# Altium schematic symbol library Schlib1.SchLib: 6 symbols
Pins are listed as number, name and electrical type; pins without a type are passive.

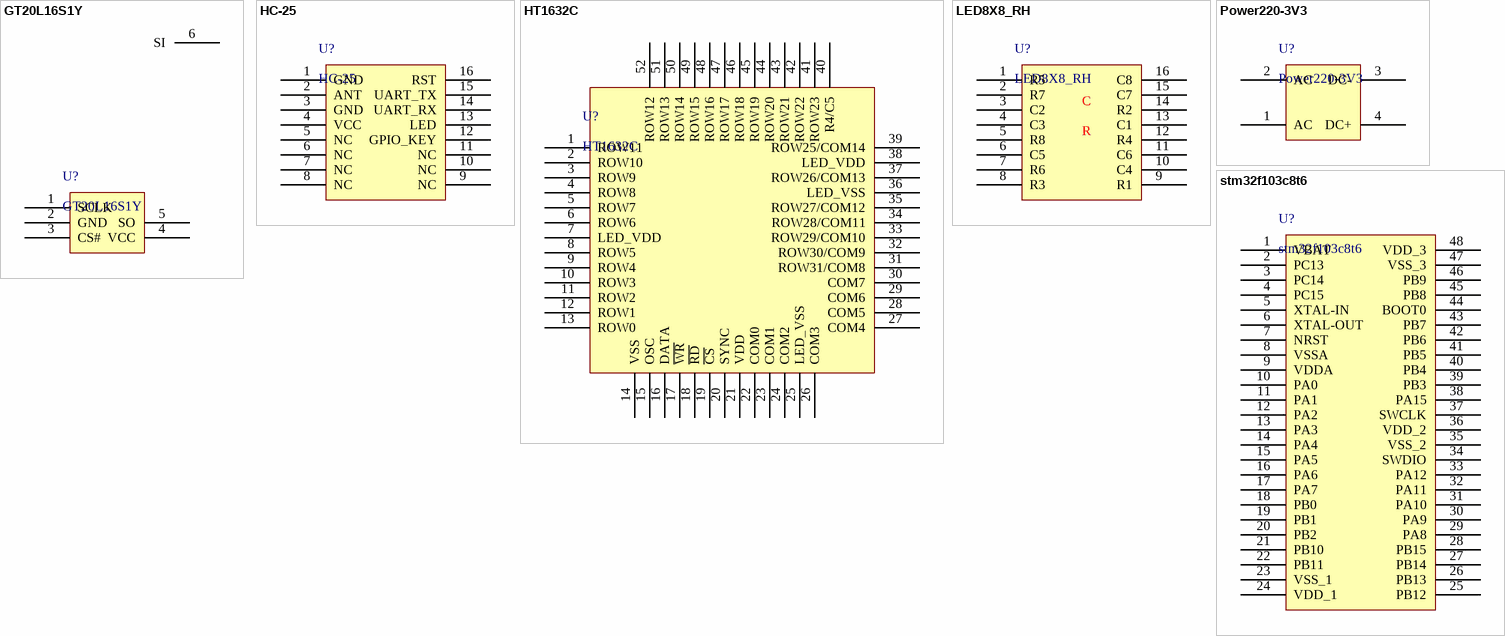
[diagram p0: symbols GT20L16S1Y to stm32f103c8t6]

## GT20L16S1Y
designator U?
pins: 1 SCLK, 2 GND, 3 CS#, 4 VCC, 5 SO, 6 SI

## HC-25
designator U?
pins: 1 GND, 2 ANT, 3 GND, 4 VCC, 5 NC, 6 NC, 7 NC, 8 NC, 9 NC, 10 NC, 11 NC, 12 GPIO_KEY, 13 LED, 14 UART_RX, 15 UART_TX, 16 RST

## HT1632C
designator U?
pins: 1 ROW11, 2 ROW10, 3 ROW9, 4 ROW8, 5 ROW7, 6 ROW6, 7 LED_VDD, 8 ROW5, 9 ROW4, 10 ROW3, 11 ROW2, 12 ROW1, 13 ROW0, 14 VSS, 15 OSC, 16 DATA, 17 ~{WR}, 18 ~{RD}, 19 ~{CS}, 20 SYNC, 21 VDD, 22 COM0, 23 COM1, 24 COM2, 25 LED_VSS, 26 COM3, 27 COM4, 28 COM5, 29 COM6, 30 COM7, 31 ROW31/COM8, 32 ROW30/COM9, 33 ROW29/COM10, 34 ROW28/COM11, 35 ROW27/COM12, 36 LED_VSS, 37 ROW26/COM13, 38 LED_VDD, 39 ROW25/COM14, 40 R4/C5, 41 ROW23, 42 ROW22, 43 ROW21, 44 ROW20, 45 ROW19, 46 ROW18, 47 ROW17, 48 ROW16, 49 ROW15, 50 ROW14, 51 ROW13, 52 ROW12

## LED8X8_RH
designator U?
pins: 1 R5, 2 R7, 3 C2, 4 C3, 5 R8, 6 C5, 7 R6, 8 R3, 9 R1, 10 C4, 11 C6, 12 R4, 13 C1, 14 R2, 15 C7, 16 C8
text: C; R

## Power220-3V3
designator U?
pins: 1 AC, 2 AC, 3 DC-, 4 DC+

## stm32f103c8t6
designator U?
pins: 1 VBAT, 2 PC13, 3 PC14, 4 PC15, 5 XTAL-IN, 6 XTAL-OUT, 7 NRST, 8 VSSA, 9 VDDA, 10 PA0, 11 PA1, 12 PA2, 13 PA3, 14 PA4, 15 PA5, 16 PA6, 17 PA7, 18 PB0, 19 PB1, 20 PB2, 21 PB10, 22 PB11, 23 VSS_1, 24 VDD_1, 25 PB12, 26 PB13, 27 PB14, 28 PB15, 29 PA8, 30 PA9, 31 PA10, 32 PA11, 33 PA12, 34 SWDIO, 35 VSS_2, 36 VDD_2, 37 SWCLK, 38 PA15, 39 PB3, 40 PB4, 41 PB5, 42 PB6, 43 PB7, 44 BOOT0, 45 PB8, 46 PB9, 47 VSS_3, 48 VDD_3